# Altium schematic symbol library TOUCH_PAD_NO_BOM.SchLib: 1 symbol
Pins are listed as number, name and electrical type; pins without a type are passive.

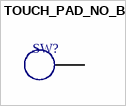
[diagram p0: symbol TOUCH_PAD_NO_BOM]

## TOUCH_PAD_NO_BOM
designator SW?  (no BOM)
pins: 1